# EAGLE library part TMP101 (library bzd)
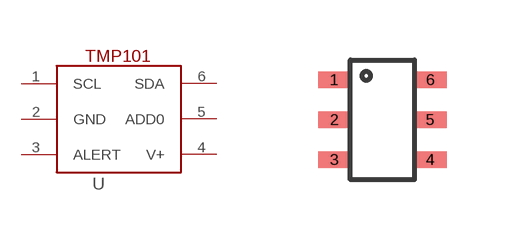
[diagram p4: symbol with the pads of SOT23_6_PIN; footprint SOT23_6_PIN]

Designator prefix -

## TMP101  [SOT23_6_PIN]
1  SCL
2  GND
3  ALERT
4  V+
5  ADD0
6  SDA

## Footprint SOT23_6_PIN (pad centres in mm)
smd 0.813 x 0.406: 1 -0.4,-0.5; 2 -0.4,-1.5; 3 -0.4,-2.5; 4 2,-2.5; 5 2,-1.5; 6 2,-0.5